# Altium footprint library RSX_Capacitors.PcbLib: 11 footprints
Each footprint in its own frame and in the unit in brackets; x right, y up, seen from the top. Pads: shape width x height; smd on the part's side, far side on the other; paste and mask are expansions set on the pad; w line width, h text height; cw(c..) or ccw(c..) is an arc to the next point about the centre after c.
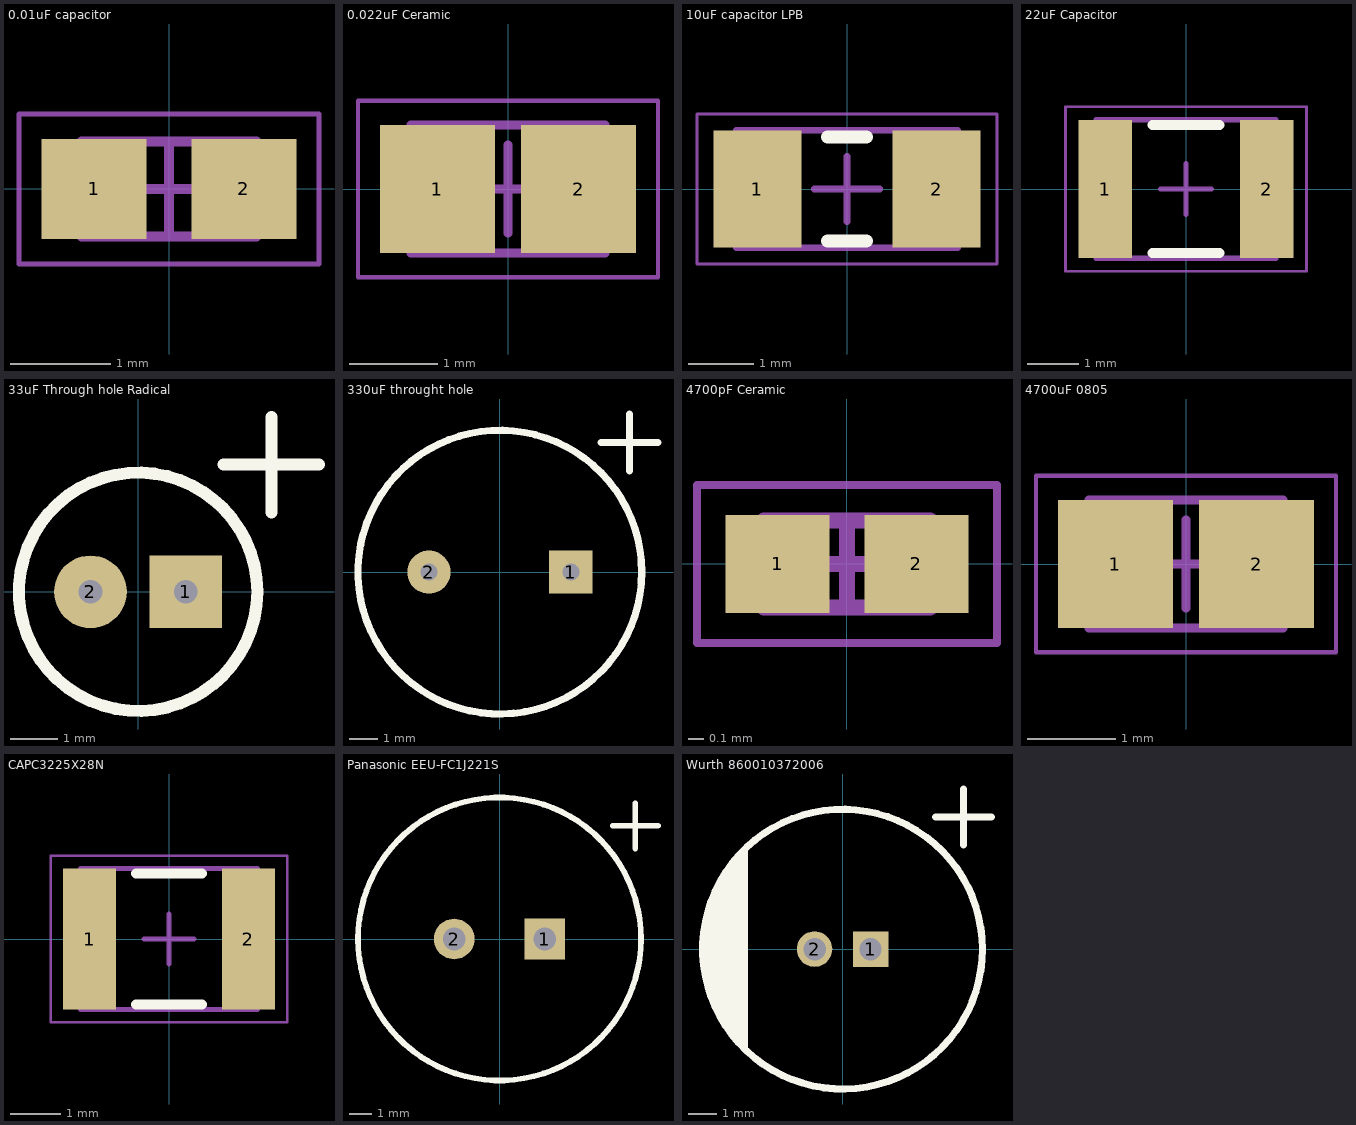
[diagram p0: the footprints below, top view; thin cyan lines are the x and y axes]

## 0.01uF capacitor [mm] "Chip Capacitor, 2-Leads, Body 1,60x0,80mm, IPC Medium Density"
height 0.87
pads (2):
  rect 1.05x1 smd: 1(-0.75,0) 2(0.75,0)
Mechanical 13:
  lines w0.1: -0.875,-0.475 -0.875,0.475 0.875,0.475 0.875,-0.475 -0.875,-0.475
Mechanical 15:
  lines w0.05: -1.5,-0.75 -1.5,0.75 1.5,0.75 1.5,-0.75 -1.5,-0.75
  lines w0.1: -0.475,0 0.475,0 ; 0,-0.475 0,0.475
3D body: height 0.87, standoff 0, extent -0.525,-0.475 0.525,0.475
3D body: height 0.87, standoff 0, extent -0.875,-0.475 -0.525,0.475
3D body: height 0.87, standoff 0, extent 0.525,-0.475 0.875,0.475

## 0.022uF Ceramic [mm] "Chip Capacitor, 2-Leads, Body 2,00x1,25mm, IPC Medium Density"
height 0.88
pads (2):
  rect 1.3x1.45 smd: 1(-0.8,0) 2(0.8,0)
Mechanical 13:
  lines w0.1: -1.1,-0.725 1.1,-0.725 1.1,0.725 -1.1,0.725 -1.1,-0.725
Mechanical 15:
  lines w0.05: -1.7,-1 1.7,-1 1.7,1 -1.7,1 -1.7,-1
  lines w0.1: -0.5,0 0.5,0 ; 0,-0.5 0,0.5
3D body: height 0.88, standoff 0, extent 0.6,-0.725 1.1,0.725
3D body: height 0.88, standoff 0, extent -1.1,-0.725 -0.6,0.725
3D body: height 0.88, standoff 0, extent -0.6,-0.725 0.6,0.725

## 10uF capacitor LPB [mm] "Chip Capacitor, 2-Leads, Body 3,20x1,60mm, IPC Medium Density"
height 1.8
pads (2):
  rect 1.35x1.8 smd: 1(-1.375,0) 2(1.375,0)
Top Overlay:
  lines w0.2: -0.3,-0.8 0.3,-0.8 ; -0.3,0.8 0.3,0.8
Mechanical 13:
  lines w0.1: -1.7,-0.9 -1.7,0.9 1.7,0.9 1.7,-0.9 -1.7,-0.9
Mechanical 15:
  lines w0.05: -2.3,-1.15 -2.3,1.15 2.3,1.15 2.3,-1.15 -2.3,-1.15
  lines w0.1: -0.5,0 0.5,0 ; 0,-0.5 0,0.5
3D body: height 1.8, standoff 0, extent -1.15,-0.9 1.15,0.9
3D body: height 1.8, standoff 0, extent -1.7,-0.9 -1.15,0.9
3D body: height 1.8, standoff 0, extent 1.15,-0.9 1.7,0.9

## 22uF Capacitor [mm] "Chip Capacitor, 2-Leads, Body 3,20x2,50mm, IPC Medium Density"
height 2.7
pads (2):
  rect 1.05x2.7 smd: 1(-1.575,0) 2(1.575,0)
Top Overlay:
  lines w0.2: -0.65,-1.25 0.65,-1.25 ; -0.65,1.25 0.65,1.25
Mechanical 13:
  lines w0.1: -1.75,-1.35 -1.75,1.35 1.75,1.35 1.75,-1.35 -1.75,-1.35
Mechanical 15:
  lines w0.05: -2.35,-1.6 -2.35,1.6 2.35,1.6 2.35,-1.6 -2.35,-1.6
  lines w0.1: -0.5,0 0.5,0 ; 0,-0.5 0,0.5
3D body: height 2.7, standoff 0, extent -1.4,-1.35 1.4,1.35
3D body: height 2.7, standoff 0, extent -1.75,-1.35 -1.4,1.35
3D body: height 2.7, standoff 0, extent 1.4,-1.35 1.75,1.35

## 33uF Through hole Radical [mm]
pads (2):
  rect 1.524x1.524 hole 0.5: 1(1,0)
  round 1.524 hole 0.5: 2(-1,0)
Top Overlay:
  circle w0.254: c0,0 r2.5
  lines w0.254: 1.794,2.667 3.794,2.667 ; 2.794,1.667 2.794,3.667

## 330uF throught hole [mm]
pads (2):
  rect 1.524x1.524 hole 0.6: 1(2.5,0)
  round 1.524 hole 0.6: 2(-2.5,0)
Top Overlay:
  circle w0.254: c0,0 r5
  lines w0.254: 3.572,4.572 5.572,4.572 ; 4.572,3.572 4.572,5.572

## 4700pF Ceramic [mm] "Chip Capacitor, 2-Leads, Body 1,00x0,50mm, IPC Medium Density"
height 0.55
pads (2):
  rect 0.66x0.62 smd: 1(-0.44,0) 2(0.44,0)
Mechanical 13:
  lines w0.1: -0.525,-0.275 -0.525,0.275 0.525,0.275 0.525,-0.275 -0.525,-0.275
Mechanical 15:
  lines w0.05: -0.95,-0.5 -0.95,0.5 0.95,0.5 0.95,-0.5 -0.95,-0.5
  lines w0.1: -0.275,0 0.275,0 ; 0,-0.275 0,0.275
3D body: height 0.55, standoff 0, extent -0.275,-0.275 0.275,0.275
3D body: height 0.55, standoff 0, extent -0.525,-0.275 -0.275,0.275
3D body: height 0.55, standoff 0, extent 0.275,-0.275 0.525,0.275

## 4700uF 0805 [mm] "Chip Capacitor, 2-Leads, Body 2,00x1,25mm, IPC Medium Density"
height 0.88
pads (2):
  rect 1.3x1.45 smd: 1(-0.8,0) 2(0.8,0)
Mechanical 13:
  lines w0.1: -1.1,-0.725 1.1,-0.725 1.1,0.725 -1.1,0.725 -1.1,-0.725
Mechanical 15:
  lines w0.05: -1.7,-1 1.7,-1 1.7,1 -1.7,1 -1.7,-1
  lines w0.1: -0.5,0 0.5,0 ; 0,-0.5 0,0.5
3D body: height 0.88, standoff 0, extent 0.6,-0.725 1.1,0.725
3D body: height 0.88, standoff 0, extent -1.1,-0.725 -0.6,0.725
3D body: height 0.88, standoff 0, extent -0.6,-0.725 0.6,0.725

## CAPC3225X28N [mm] "Chip Capacitor, 2-Leads, Body 3,20x2,50mm, IPC Medium Density"
height 2.8
pads (2):
  rect 1.05x2.8 smd: 1(-1.575,0) 2(1.575,0)
Top Overlay:
  lines w0.2: -0.65,-1.3 0.65,-1.3 ; -0.65,1.3 0.65,1.3
Mechanical 13:
  lines w0.1: -1.75,-1.4 1.75,-1.4 1.75,1.4 -1.75,1.4 -1.75,-1.4
Mechanical 15:
  lines w0.05: -2.35,-1.65 2.35,-1.65 2.35,1.65 -2.35,1.65 -2.35,-1.65
  lines w0.1: -0.5,0 0.5,0 ; 0,-0.5 0,0.5
3D body: height 2.8, standoff 0, extent 1.4,-1.4 1.75,1.4
3D body: height 2.8, standoff 0, extent -1.75,-1.4 -1.4,1.4
3D body: height 2.8, standoff 0, extent -1.4,-1.4 1.4,1.4

## Panasonic EEU-FC1J221S [mm] "Aluminum Electrolytic Capacitors - Radial Leaded 220uF 63V"
pads (2):
  rect 1.8x1.8 hole 1: 1(2,0)
  round 1.8 hole 1: 2(-2,0)
Top Overlay:
  circle w0.254: c0,0 r6.25
  lines w0.254: 5,5 7,5 ; 6,4 6,6

## Wurth 860010372006 [mm] "Aluminum Electrolytic Capacitors - Radial Leaded WCAP-ATG8 100uF 16V 20% Radial"
pads (2):
  rect 1.27x1.27 hole 0.8: 1(1,0)
  round 1.27 hole 0.8: 2(-1,0)
Top Overlay:
  circle w0.254: c0,0 r5
  region: -3.503,3.568 -4.489,2.202 -4.968,0.564 -4.931,-0.826 -4.569,-2.032 -4.33,-2.5 -3.503,-3.554
  lines w0.254: -3.503,-3.554 -3.503,3.568 ; 3.318,4.724 5.318,4.724 ; 4.318,3.724 4.318,5.724